# Altium integrated library Oscillators - Crystals.IntLib: 746 symbols (part 16 of 17)
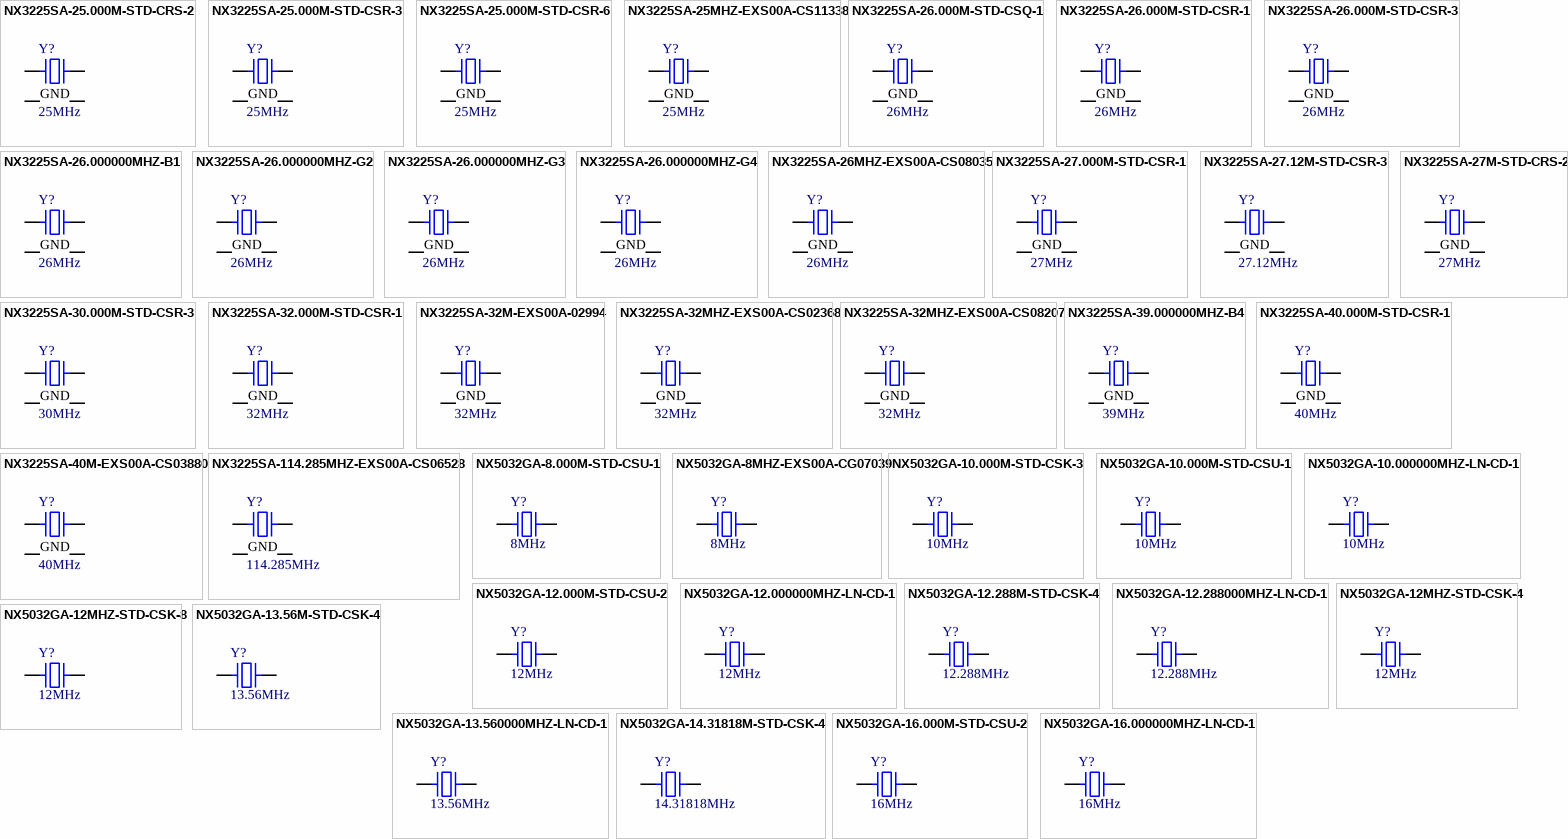
[diagram p33: symbols NX3225SA-25.000M-STD-CRS-2 to NX5032GA-16.000000MHZ-LN-CD-1]

## NX5032GA-16.000M-STD-CSU-2
designator Y?, comment 16MHz
CRYSTAL 16.0000MHZ 8PF SMD; Part Number: NX5032GA-16.000M-STD-CSU-2; Manufacturer: NDK America, Inc.; ESR (Equivalent Series Resistance): 120 Ohms; Frequency Stability: ±150ppm; Frequency Tolerance: ±50ppm; Operating Mode: Fundamental; ComponentLink1Description: Datasheet; ComponentLink1URL: //media.digikey.com/pdf/Data%20Sheets/NDK%20PDFs/NX5032GA_STD-CSU-1,-2.pdf; ComponentLink2Description: DigiKey Link; ComponentLink2URL: http://digikey.com/product-detail/en/ndk-america-inc/NX5032GA-16.000M-STD-CSU-2/644-1135-1-ND/1788490; Frequency: 16MHz; Height - Seated (Max): 0.059" (1.50mm); LastUpdated: 9/2/2020 1:22:00 AM; Lifecycle Status: Active; Load Capacitance: 8pF; Minimum Order: 1; Mounting Type: Surface Mount; Operating Temperature: -40°C ~ 150°C; Package / Case: 2-SMD, No Lead; Packaging: TapeAndReel; PartId: 631; Part Status: Active; Price: 0.63; Ratings: AEC-Q200; Series: NX5032GA; Size / Dimension: 0.197" L x 0.126" W (5.00mm x 3.20mm); Supplier 1: DigiKey; Supplier Part Number 1: 644-1135-1-ND; Type: MHz Crystal; Value: 16MHz
footprint NDK NX5032GA
pins: 1, 2

## NX5032GA-16.000000MHZ-LN-CD-1
designator Y?, comment 16MHz
CRYSTAL 16.0000MHZ 8PF SMD; Part Number: NX5032GA-16.000000MHZ-LN-CD-1; Manufacturer: NDK America, Inc.; ESR (Equivalent Series Resistance): 120 Ohms; Frequency Stability: ±50ppm; Operating Mode: Fundamental; ComponentLink1Description: Datasheet; ComponentLink1URL: //media.digikey.com/pdf/Data%20Sheets/NDK%20PDFs/NX5032GA.pdf; ComponentLink2Description: DigiKey Link; ComponentLink2URL: http://digikey.com/product-detail/en/ndk-america-inc/NX5032GA-16.000000MHZ-LN-CD-1/644-1037-1-ND/1128909; Frequency: 16MHz; Frequency Tolerance: ±50ppm; Height - Seated (Max): 0.059" (1.50mm); LastUpdated: 9/2/2020 1:22:00 AM; Lifecycle Status: Active; Load Capacitance: 8pF; Minimum Order: 1; Mounting Type: Surface Mount; Operating Temperature: -10°C ~ 70°C; Package / Case: 2-SMD, No Lead; Packaging: TapeAndReel; PartId: 622; Part Status: Active; Price: 0.32; Series: NX5032GA; Size / Dimension: 0.197" L x 0.126" W (5.00mm x 3.20mm); Supplier 1: DigiKey; Supplier Part Number 1: 644-1037-1-ND; Type: MHz Crystal; Value: 16MHz
footprint NDK NX5032GA
pins: 1, 2

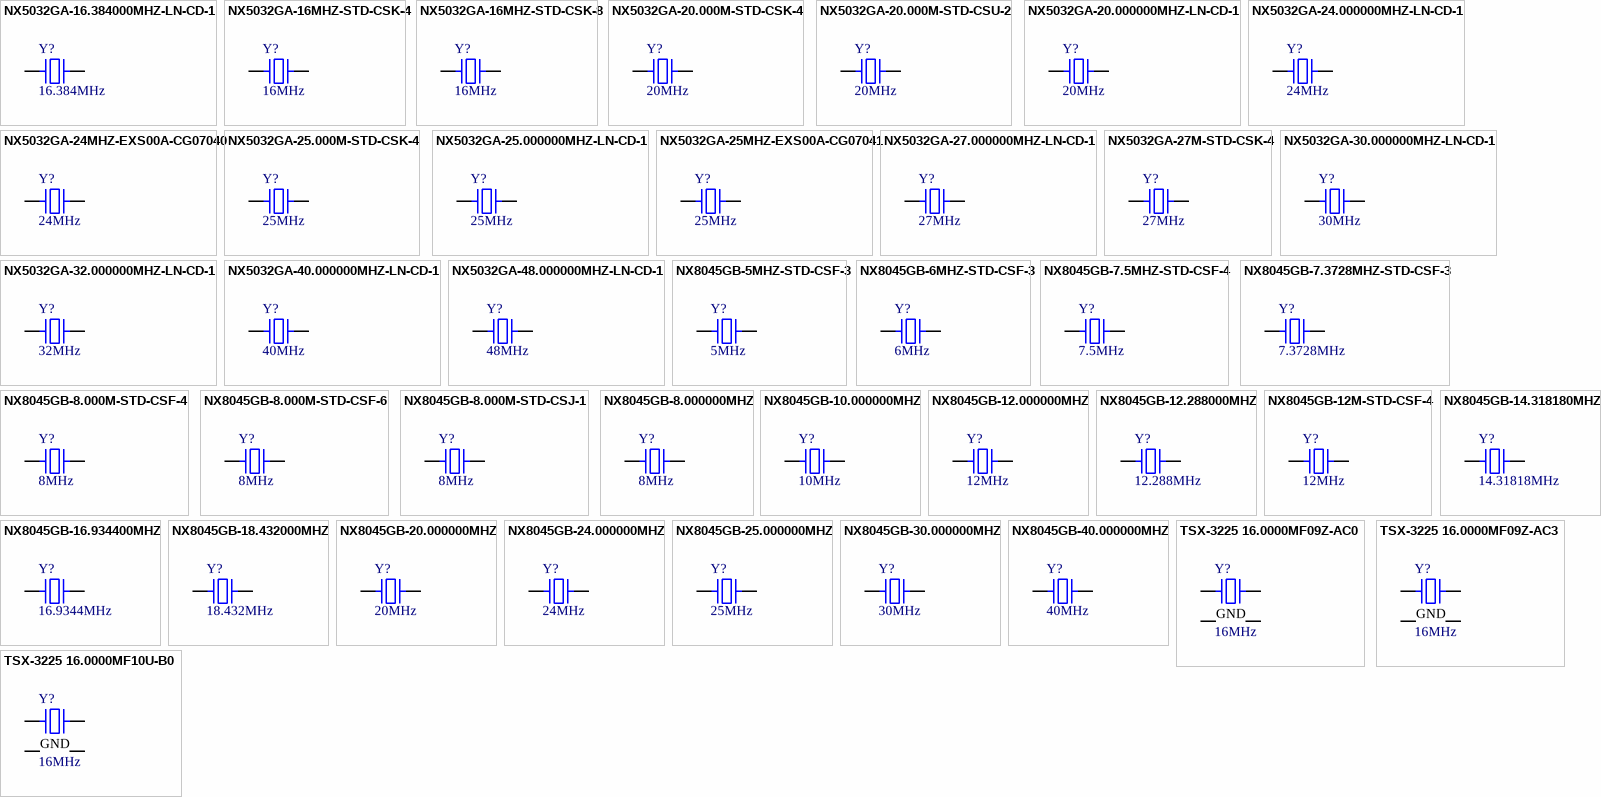
[diagram p17: symbols NX5032GA-16.384000MHZ-LN-CD-1 to TSX-3225 16.0000MF10U-B0]

## NX5032GA-16.384000MHZ-LN-CD-1
designator Y?, comment 16.384MHz
CRYSTAL 16.3840MHZ 8PF SMD; Part Number: NX5032GA-16.384000MHZ-LN-CD-1; Manufacturer: NDK America, Inc.; ESR (Equivalent Series Resistance): 120 Ohms; Frequency Stability: ±50ppm; Operating Mode: Fundamental; ComponentLink1Description: Datasheet; ComponentLink1URL: //media.digikey.com/pdf/Data%20Sheets/NDK%20PDFs/NX5032GA.pdf; ComponentLink2Description: DigiKey Link; ComponentLink2URL: http://digikey.com/product-detail/en/ndk-america-inc/NX5032GA-16.384000MHZ-LN-CD-1/644-1038-1-ND/1128910; Frequency: 16.384MHz; Frequency Tolerance: ±50ppm; Height - Seated (Max): 0.059" (1.50mm); LastUpdated: 9/2/2020 1:22:00 AM; Lifecycle Status: Active; Load Capacitance: 8pF; Minimum Order: 1; Mounting Type: Surface Mount; Operating Temperature: -10°C ~ 70°C; Package / Case: 2-SMD, No Lead; Packaging: TapeAndReel; PartId: 606; Part Status: Active; Price: 0.32; Series: NX5032GA; Size / Dimension: 0.197" L x 0.126" W (5.00mm x 3.20mm); Supplier 1: DigiKey; Supplier Part Number 1: 644-1038-1-ND; Type: MHz Crystal; Value: 16.384MHz
footprint NDK NX5032GA
pins: 1, 2

## NX5032GA-16MHZ-STD-CSK-4
designator Y?, comment 16MHz
CRYSTAL 16.0000MHZ 8PF SMD; Part Number: NX5032GA-16MHZ-STD-CSK-4; Manufacturer: NDK America, Inc.; ESR (Equivalent Series Resistance): 50 Ohms; Frequency Stability: ±30ppm; Frequency Tolerance: ±20ppm; Operating Mode: Fundamental; ComponentLink1Description: Datasheet; ComponentLink1URL: http://www.ndk.com/images/products/catalog/c_NX5032GA_e.pdf; ComponentLink2Description: DigiKey Link; ComponentLink2URL: http://digikey.com/product-detail/en/ndk-america-inc/NX5032GA-16MHZ-STD-CSK-4/644-1187-1-ND/3125576; Frequency: 16MHz; Height - Seated (Max): 0.059" (1.50mm); LastUpdated: 9/2/2020 1:22:00 AM; Lifecycle Status: Active; Load Capacitance: 8pF; Minimum Order: 1; Mounting Type: Surface Mount; Operating Temperature: -10°C ~ 70°C; Package / Case: 2-SMD, No Lead; Packaging: TapeAndReel; PartId: 630; Part Status: Active; Price: 0.38; Series: NX5032GA; Size / Dimension: 0.197" L x 0.126" W (5.00mm x 3.20mm); Supplier 1: DigiKey; Supplier Part Number 1: 644-1187-1-ND; Type: MHz Crystal; Value: 16MHz
footprint NDK NX5032GA
pins: 1, 2

## NX5032GA-16MHZ-STD-CSK-8
designator Y?, comment 16MHz
CRYSTAL 16.0000MHZ 8PF SMD; Part Number: NX5032GA-16MHZ-STD-CSK-8; Manufacturer: NDK America, Inc.; ESR (Equivalent Series Resistance): 120 Ohms; Frequency Stability: ±50ppm; Frequency Tolerance: ±30ppm; Operating Mode: Fundamental; ComponentLink1Description: Datasheet; ComponentLink1URL: http://www.ndk.com/images/products/catalog/c_NX5032GA-STD-CSK-8_e.pdf; ComponentLink2Description: DigiKey Link; ComponentLink2URL: http://digikey.com/product-detail/en/ndk-america-inc/NX5032GA-16MHZ-STD-CSK-8/644-1188-1-ND/3125577; Frequency: 16MHz; Height - Seated (Max): 0.059" (1.50mm); LastUpdated: 9/2/2020 1:22:00 AM; Lifecycle Status: Active; Load Capacitance: 8pF; Minimum Order: 1; Mounting Type: Surface Mount; Operating Temperature: -40°C ~ 85°C; Package / Case: 2-SMD, No Lead; Packaging: TapeAndReel; PartId: 614; Part Status: Active; Price: 0.38; Series: NX5032GA; Size / Dimension: 0.197" L x 0.126" W (5.00mm x 3.20mm); Supplier 1: DigiKey; Supplier Part Number 1: 644-1188-1-ND; Type: MHz Crystal; Value: 16MHz
footprint NDK NX5032GA
pins: 1, 2

## NX5032GA-20.000M-STD-CSK-4
designator Y?, comment 20MHz
CRYSTAL 20.0000MHZ 8PF SMD; Part Number: NX5032GA-20.000M-STD-CSK-4; Manufacturer: NDK America, Inc.; ESR (Equivalent Series Resistance): 50 Ohms; Frequency Stability: ±30ppm; Frequency Tolerance: ±20ppm; Operating Mode: Fundamental; ComponentLink1Description: Datasheet; ComponentLink1URL: http://www.ndk.com/images/products/catalog/c_NX5032GA_e.pdf; ComponentLink2Description: DigiKey Link; ComponentLink2URL: http://digikey.com/product-detail/en/ndk-america-inc/NX5032GA-20.000M-STD-CSK-4/644-1273-1-ND/5023005; Frequency: 20MHz; Height - Seated (Max): 0.059" (1.50mm); LastUpdated: 9/2/2020 1:22:00 AM; Lifecycle Status: Active; Load Capacitance: 8pF; Minimum Order: 1; Mounting Type: Surface Mount; Operating Temperature: -10°C ~ 70°C; Package / Case: 2-SMD, No Lead; Packaging: TapeAndReel; PartId: 620; Part Status: Active; Price: 0.37; Series: NX5032GA; Size / Dimension: 0.197" L x 0.126" W (5.00mm x 3.20mm); Supplier 1: DigiKey; Supplier Part Number 1: 644-1273-1-ND; Type: MHz Crystal; Value: 20MHz
footprint NDK NX5032GA
pins: 1, 2

## NX5032GA-20.000M-STD-CSU-2
designator Y?, comment 20MHz
CRYSTAL 20.0000MHZ 8PF SMD; Part Number: NX5032GA-20.000M-STD-CSU-2; Manufacturer: NDK America, Inc.; ESR (Equivalent Series Resistance): 100 Ohms; Frequency Stability: ±150ppm; Frequency Tolerance: ±50ppm; Operating Mode: Fundamental; ComponentLink1Description: Datasheet; ComponentLink1URL: //media.digikey.com/pdf/Data%20Sheets/NDK%20PDFs/NX5032GA_STD-CSU-1,-2.pdf; ComponentLink2Description: DigiKey Link; ComponentLink2URL: http://digikey.com/product-detail/en/ndk-america-inc/NX5032GA-20.000M-STD-CSU-2/644-1136-1-ND/1788491; Frequency: 20MHz; Height - Seated (Max): 0.059" (1.50mm); LastUpdated: 9/2/2020 1:22:00 AM; Lifecycle Status: Active; Load Capacitance: 8pF; Minimum Order: 1; Mounting Type: Surface Mount; Operating Temperature: -40°C ~ 150°C; Package / Case: 2-SMD, No Lead; Packaging: TapeAndReel; PartId: 633; Part Status: Active; Price: 0.63; Ratings: AEC-Q200; Series: NX5032GA; Size / Dimension: 0.197" L x 0.126" W (5.00mm x 3.20mm); Supplier 1: DigiKey; Supplier Part Number 1: 644-1136-1-ND; Type: MHz Crystal; Value: 20MHz
footprint NDK NX5032GA
pins: 1, 2

## NX5032GA-20.000000MHZ-LN-CD-1
designator Y?, comment 20MHz
CRYSTAL 20.0000MHZ 8PF SMD; Part Number: NX5032GA-20.000000MHZ-LN-CD-1; Manufacturer: NDK America, Inc.; ESR (Equivalent Series Resistance): 70 Ohms; Frequency Stability: ±50ppm; Operating Mode: Fundamental; ComponentLink1Description: Datasheet; ComponentLink1URL: //media.digikey.com/pdf/Data%20Sheets/NDK%20PDFs/NX5032GA.pdf; ComponentLink2Description: DigiKey Link; ComponentLink2URL: http://digikey.com/product-detail/en/ndk-america-inc/NX5032GA-20.000000MHZ-LN-CD-1/644-1039-1-ND/1128911; Frequency: 20MHz; Frequency Tolerance: ±50ppm; Height - Seated (Max): 0.059" (1.50mm); LastUpdated: 9/2/2020 1:22:00 AM; Lifecycle Status: Active; Load Capacitance: 8pF; Minimum Order: 1; Mounting Type: Surface Mount; Operating Temperature: -10°C ~ 70°C; Package / Case: 2-SMD, No Lead; Packaging: TapeAndReel; PartId: 634; Part Status: Active; Price: 0.32; Series: NX5032GA; Size / Dimension: 0.197" L x 0.126" W (5.00mm x 3.20mm); Supplier 1: DigiKey; Supplier Part Number 1: 644-1039-1-ND; Type: MHz Crystal; Value: 20MHz
footprint NDK NX5032GA
pins: 1, 2

## NX5032GA-24.000000MHZ-LN-CD-1
designator Y?, comment 24MHz
CRYSTAL 24.0000MHZ 8PF SMD; Part Number: NX5032GA-24.000000MHZ-LN-CD-1; Manufacturer: NDK America, Inc.; ESR (Equivalent Series Resistance): 70 Ohms; Frequency Stability: ±50ppm; Operating Mode: Fundamental; ComponentLink1Description: Datasheet; ComponentLink1URL: //media.digikey.com/pdf/Data%20Sheets/NDK%20PDFs/NX5032GA.pdf; ComponentLink2Description: DigiKey Link; ComponentLink2URL: http://digikey.com/product-detail/en/ndk-america-inc/NX5032GA-24.000000MHZ-LN-CD-1/644-1040-1-ND/1128912; Frequency: 24MHz; Frequency Tolerance: ±50ppm; Height - Seated (Max): 0.059" (1.50mm); LastUpdated: 9/2/2020 1:22:00 AM; Lifecycle Status: Active; Load Capacitance: 8pF; Minimum Order: 1; Mounting Type: Surface Mount; Operating Temperature: -10°C ~ 70°C; Package / Case: 2-SMD, No Lead; Packaging: TapeAndReel; PartId: 623; Part Status: Active; Price: 0.32; Series: NX5032GA; Size / Dimension: 0.197" L x 0.126" W (5.00mm x 3.20mm); Supplier 1: DigiKey; Supplier Part Number 1: 644-1040-1-ND; Type: MHz Crystal; Value: 24MHz
footprint NDK NX5032GA
pins: 1, 2

## NX5032GA-24MHZ-EXS00A-CG07040
designator Y?, comment 24MHz
CRYSTAL 24MHZ 18PF SMD; Part Number: NX5032GA-24MHZ-EXS00A-CG07040; Manufacturer: NDK America, Inc.; ESR (Equivalent Series Resistance): 70 Ohms; Frequency Stability: ±30ppm; Operating Mode: Fundamental; ComponentLink1Description: Datasheet; ComponentLink1URL: //media.digikey.com/pdf/Data%20Sheets/NDK%20PDFs/NX5032GA-24MHz-EXS00A-CG07040.pdf; ComponentLink2Description: DigiKey Link; ComponentLink2URL: http://digikey.com/product-detail/en/ndk-america-inc/NX5032GA-24MHZ-EXS00A-CG07040/644-1319-1-ND/8275437; Frequency: 24MHz; Frequency Tolerance: ±30ppm; Height - Seated (Max): 0.059" (1.50mm); LastUpdated: 9/2/2020 1:21:59 AM; Lifecycle Status: Active; Load Capacitance: 18pF; Minimum Order: 0; Mounting Type: Surface Mount; Operating Temperature: -20°C ~ 70°C; Package / Case: 2-SMD, No Lead; Packaging: TapeAndReel; PartId: 638; Part Status: Active; Price: 0.48; Series: NX5032GA; Size / Dimension: 0.197" L x 0.126" W (5.00mm x 3.20mm); Supplier 1: DigiKey; Supplier Part Number 1: 644-1319-1-ND; Type: MHz Crystal; Value: 24MHz
footprint NDK NX5032GA
pins: 1, 2

## NX5032GA-25.000M-STD-CSK-4
designator Y?, comment 25MHz
CRYSTAL 25.0000MHZ 8PF SMD; Part Number: NX5032GA-25.000M-STD-CSK-4; Manufacturer: NDK America, Inc.; ESR (Equivalent Series Resistance): 50 Ohms; Frequency Stability: ±30ppm; Frequency Tolerance: ±20ppm; Operating Mode: Fundamental; ComponentLink1Description: Datasheet; ComponentLink1URL: http://www.ndk.com/images/products/catalog/c_NX5032GA_e.pdf; ComponentLink2Description: DigiKey Link; ComponentLink2URL: http://digikey.com/product-detail/en/ndk-america-inc/NX5032GA-25.000M-STD-CSK-4/644-1274-1-ND/5023006; Frequency: 25MHz; Height - Seated (Max): 0.059" (1.50mm); LastUpdated: 9/2/2020 1:22:00 AM; Lifecycle Status: Active; Load Capacitance: 8pF; Minimum Order: 1; Mounting Type: Surface Mount; Operating Temperature: -10°C ~ 70°C; Package / Case: 2-SMD, No Lead; Packaging: TapeAndReel; PartId: 628; Part Status: Active; Price: 0.37; Series: NX5032GA; Size / Dimension: 0.197" L x 0.126" W (5.00mm x 3.20mm); Supplier 1: DigiKey; Supplier Part Number 1: 644-1274-1-ND; Type: MHz Crystal; Value: 25MHz
footprint NDK NX5032GA
pins: 1, 2

## NX5032GA-25.000000MHZ-LN-CD-1
designator Y?, comment 25MHz
CRYSTAL 25.0000MHZ 8PF SMD; Part Number: NX5032GA-25.000000MHZ-LN-CD-1; Manufacturer: NDK America, Inc.; ESR (Equivalent Series Resistance): 70 Ohms; Frequency Stability: ±50ppm; Operating Mode: Fundamental; ComponentLink1Description: Datasheet; ComponentLink1URL: //media.digikey.com/pdf/Data%20Sheets/NDK%20PDFs/NX5032GA.pdf; ComponentLink2Description: DigiKey Link; ComponentLink2URL: http://digikey.com/product-detail/en/ndk-america-inc/NX5032GA-25.000000MHZ-LN-CD-1/644-1041-1-ND/1128913; Frequency: 25MHz; Frequency Tolerance: ±50ppm; Height - Seated (Max): 0.059" (1.50mm); LastUpdated: 9/2/2020 1:22:00 AM; Lifecycle Status: Active; Load Capacitance: 8pF; Minimum Order: 1; Mounting Type: Surface Mount; Operating Temperature: -10°C ~ 70°C; Package / Case: 2-SMD, No Lead; Packaging: TapeAndReel; PartId: 621; Part Status: Active; Price: 0.32; Series: NX5032GA; Size / Dimension: 0.197" L x 0.126" W (5.00mm x 3.20mm); Supplier 1: DigiKey; Supplier Part Number 1: 644-1041-1-ND; Type: MHz Crystal; Value: 25MHz
footprint NDK NX5032GA
pins: 1, 2

## NX5032GA-25MHZ-EXS00A-CG07041
designator Y?, comment 25MHz
CRYSTAL 25MHZ 18PF SMD; Part Number: NX5032GA-25MHZ-EXS00A-CG07041; Manufacturer: NDK America, Inc.; ESR (Equivalent Series Resistance): 70 Ohms; Frequency Stability: ±30ppm; Frequency Tolerance: ±20ppm; Operating Mode: Fundamental; ComponentLink1Description: Datasheet; ComponentLink1URL: //media.digikey.com/pdf/Data%20Sheets/NDK%20PDFs/NX5032GA-25MHz-EXS00A-CG07041.pdf; ComponentLink2Description: DigiKey Link; ComponentLink2URL: http://digikey.com/product-detail/en/ndk-america-inc/NX5032GA-25MHZ-EXS00A-CG07041/644-1322-1-ND/8275440; Frequency: 25MHz; Height - Seated (Max): 0.059" (1.50mm); LastUpdated: 9/2/2020 1:22:00 AM; Lifecycle Status: Active; Load Capacitance: 18pF; Minimum Order: 1; Mounting Type: Surface Mount; Operating Temperature: -40°C ~ 85°C; Package / Case: 2-SMD, No Lead; Packaging: TapeAndReel; PartId: 618; Part Status: Active; Price: 0.48; Series: NX5032GA; Size / Dimension: 0.197" L x 0.126" W (5.00mm x 3.20mm); Supplier 1: DigiKey; Supplier Part Number 1: 644-1322-1-ND; Type: MHz Crystal; Value: 25MHz
footprint NDK NX5032GA
pins: 1, 2

## NX5032GA-27.000000MHZ-LN-CD-1
designator Y?, comment 27MHz
CRYSTAL 27.0000MHZ 8PF SMD; Part Number: NX5032GA-27.000000MHZ-LN-CD-1; Manufacturer: NDK America, Inc.; ESR (Equivalent Series Resistance): 70 Ohms; Frequency Stability: ±50ppm; Operating Mode: Fundamental; ComponentLink1Description: Datasheet; ComponentLink1URL: //media.digikey.com/pdf/Data%20Sheets/NDK%20PDFs/NX5032GA.pdf; ComponentLink2Description: DigiKey Link; ComponentLink2URL: http://digikey.com/product-detail/en/ndk-america-inc/NX5032GA-27.000000MHZ-LN-CD-1/644-1042-1-ND/1128914; Frequency: 27MHz; Frequency Tolerance: ±50ppm; Height - Seated (Max): 0.059" (1.50mm); LastUpdated: 9/2/2020 1:22:00 AM; Lifecycle Status: Active; Load Capacitance: 8pF; Minimum Order: 1; Mounting Type: Surface Mount; Operating Temperature: -10°C ~ 70°C; Package / Case: 2-SMD, No Lead; Packaging: TapeAndReel; PartId: 624; Part Status: Active; Price: 0.32; Series: NX5032GA; Size / Dimension: 0.197" L x 0.126" W (5.00mm x 3.20mm); Supplier 1: DigiKey; Supplier Part Number 1: 644-1042-1-ND; Type: MHz Crystal; Value: 27MHz
footprint NDK NX5032GA
pins: 1, 2

## NX5032GA-27M-STD-CSK-4
designator Y?, comment 27MHz
CRYSTAL 27.0000MHZ 8PF SMD; Part Number: NX5032GA-27M-STD-CSK-4; Manufacturer: NDK America, Inc.; ESR (Equivalent Series Resistance): 50 Ohms; Frequency Stability: ±30ppm; Frequency Tolerance: ±20ppm; Operating Mode: Fundamental; ComponentLink1Description: Datasheet; ComponentLink1URL: http://www.ndk.com/images/products/catalog/c_NX5032GA_e.pdf; ComponentLink2Description: DigiKey Link; ComponentLink2URL: http://digikey.com/product-detail/en/ndk-america-inc/NX5032GA-27M-STD-CSK-4/644-1246-1-ND/4914489; Frequency: 27MHz; Height - Seated (Max): 0.059" (1.50mm); LastUpdated: 9/2/2020 1:22:00 AM; Lifecycle Status: Active; Load Capacitance: 8pF; Minimum Order: 1; Mounting Type: Surface Mount; Operating Temperature: -10°C ~ 70°C; Package / Case: 2-SMD, No Lead; Packaging: TapeAndReel; PartId: 608; Part Status: Active; Price: 0.37; Series: NX5032GA; Size / Dimension: 0.197" L x 0.126" W (5.00mm x 3.20mm); Supplier 1: DigiKey; Supplier Part Number 1: 644-1246-1-ND; Type: MHz Crystal; Value: 27MHz
footprint NDK NX5032GA
pins: 1, 2

## NX5032GA-30.000000MHZ-LN-CD-1
designator Y?, comment 30MHz
CRYSTAL 30.0000MHZ 8PF SMD; Part Number: NX5032GA-30.000000MHZ-LN-CD-1; Manufacturer: NDK America, Inc.; ESR (Equivalent Series Resistance): 50 Ohms; Frequency Stability: ±50ppm; Operating Mode: Fundamental; ComponentLink1Description: Datasheet; ComponentLink1URL: //media.digikey.com/pdf/Data%20Sheets/NDK%20PDFs/NX5032GA.pdf; ComponentLink2Description: DigiKey Link; ComponentLink2URL: http://digikey.com/product-detail/en/ndk-america-inc/NX5032GA-30.000000MHZ-LN-CD-1/644-1043-1-ND/1128915; Frequency: 30MHz; Frequency Tolerance: ±50ppm; Height - Seated (Max): 0.059" (1.50mm); LastUpdated: 9/2/2020 1:21:59 AM; Lifecycle Status: Active; Load Capacitance: 8pF; Minimum Order: 1; Mounting Type: Surface Mount; Operating Temperature: -10°C ~ 70°C; Package / Case: 2-SMD, No Lead; Packaging: TapeAndReel; PartId: 635; Part Status: Active; Price: 0.32; Series: NX5032GA; Size / Dimension: 0.197" L x 0.126" W (5.00mm x 3.20mm); Supplier 1: DigiKey; Supplier Part Number 1: 644-1043-1-ND; Type: MHz Crystal; Value: 30MHz
footprint NDK NX5032GA
pins: 1, 2

## NX5032GA-32.000000MHZ-LN-CD-1
designator Y?, comment 32MHz
CRYSTAL 32.0000MHZ 8PF SMD; Part Number: NX5032GA-32.000000MHZ-LN-CD-1; Manufacturer: NDK America, Inc.; ESR (Equivalent Series Resistance): 50 Ohms; Frequency Stability: ±50ppm; Operating Mode: Fundamental; ComponentLink1Description: Datasheet; ComponentLink1URL: //media.digikey.com/pdf/Data%20Sheets/NDK%20PDFs/NX5032GA.pdf; ComponentLink2Description: DigiKey Link; ComponentLink2URL: http://digikey.com/product-detail/en/ndk-america-inc/NX5032GA-32.000000MHZ-LN-CD-1/644-1044-1-ND/1128916; Frequency: 32MHz; Frequency Tolerance: ±50ppm; Height - Seated (Max): 0.059" (1.50mm); LastUpdated: 9/2/2020 1:21:59 AM; Lifecycle Status: Active; Load Capacitance: 8pF; Minimum Order: 1; Mounting Type: Surface Mount; Operating Temperature: -10°C ~ 70°C; Package / Case: 2-SMD, No Lead; Packaging: TapeAndReel; PartId: 636; Part Status: Active; Price: 0.32; Series: NX5032GA; Size / Dimension: 0.197" L x 0.126" W (5.00mm x 3.20mm); Supplier 1: DigiKey; Supplier Part Number 1: 644-1044-1-ND; Type: MHz Crystal; Value: 32MHz
footprint NDK NX5032GA
pins: 1, 2

## NX5032GA-40.000000MHZ-LN-CD-1
designator Y?, comment 40MHz
CRYSTAL 40.0000MHZ 8PF SMD; Part Number: NX5032GA-40.000000MHZ-LN-CD-1; Manufacturer: NDK America, Inc.; ESR (Equivalent Series Resistance): 50 Ohms; Frequency Stability: ±50ppm; Operating Mode: Fundamental; ComponentLink1Description: Datasheet; ComponentLink1URL: //media.digikey.com/pdf/Data%20Sheets/NDK%20PDFs/NX5032GA.pdf; ComponentLink2Description: DigiKey Link; ComponentLink2URL: http://digikey.com/product-detail/en/ndk-america-inc/NX5032GA-40.000000MHZ-LN-CD-1/644-1045-1-ND/1128917; Frequency: 40MHz; Frequency Tolerance: ±50ppm; Height - Seated (Max): 0.059" (1.50mm); LastUpdated: 9/2/2020 1:22:00 AM; Lifecycle Status: Active; Load Capacitance: 8pF; Minimum Order: 1; Mounting Type: Surface Mount; Operating Temperature: -10°C ~ 70°C; Package / Case: 2-SMD, No Lead; Packaging: TapeAndReel; PartId: 617; Part Status: Active; Price: 0.32; Series: NX5032GA; Size / Dimension: 0.197" L x 0.126" W (5.00mm x 3.20mm); Supplier 1: DigiKey; Supplier Part Number 1: 644-1045-1-ND; Type: MHz Crystal; Value: 40MHz
footprint NDK NX5032GA
pins: 1, 2

## NX5032GA-48.000000MHZ-LN-CD-1
designator Y?, comment 48MHz
CRYSTAL 48.0000MHZ 8PF SMD; Part Number: NX5032GA-48.000000MHZ-LN-CD-1; Manufacturer: NDK America, Inc.; ESR (Equivalent Series Resistance): 50 Ohms; Frequency Stability: ±50ppm; Operating Mode: Fundamental; ComponentLink1Description: Datasheet; ComponentLink1URL: //media.digikey.com/pdf/Data%20Sheets/NDK%20PDFs/NX5032GA.pdf; ComponentLink2Description: DigiKey Link; ComponentLink2URL: http://digikey.com/product-detail/en/ndk-america-inc/NX5032GA-48.000000MHZ-LN-CD-1/644-1046-1-ND/1128918; Frequency: 48MHz; Frequency Tolerance: ±50ppm; Height - Seated (Max): 0.059" (1.50mm); LastUpdated: 9/2/2020 1:22:00 AM; Lifecycle Status: Active; Load Capacitance: 8pF; Minimum Order: 1; Mounting Type: Surface Mount; Operating Temperature: -10°C ~ 70°C; Package / Case: 2-SMD, No Lead; Packaging: TapeAndReel; PartId: 626; Part Status: Active; Price: 0.32; Series: NX5032GA; Size / Dimension: 0.197" L x 0.126" W (5.00mm x 3.20mm); Supplier 1: DigiKey; Supplier Part Number 1: 644-1046-1-ND; Type: MHz Crystal; Value: 48MHz
footprint NDK NX5032GA
pins: 1, 2

## NX8045GB-5MHZ-STD-CSF-3
designator Y?, comment 5MHz
CRYSTAL 5.0000MHZ 8PF SMD; Part Number: NX8045GB-5MHZ-STD-CSF-3; Manufacturer: NDK America, Inc.; ESR (Equivalent Series Resistance): 250 Ohms; Frequency Stability: ±30ppm; Frequency Tolerance: ±20ppm; Operating Mode: Fundamental; ComponentLink1Description: Datasheet; ComponentLink1URL: http://www.ndk.com/images/products/catalog/c_NX8045GB-STD-CSF-4_e.pdf; ComponentLink2Description: DigiKey Link; ComponentLink2URL: http://digikey.com/product-detail/en/ndk-america-inc/NX8045GB-5MHZ-STD-CSF-3/644-1202-1-ND/3894081; Frequency: 5MHz; Height - Seated (Max): 0.079" (2.00mm); LastUpdated: 9/2/2020 1:22:00 AM; Lifecycle Status: Active; Load Capacitance: 8pF; Minimum Order: 1; Mounting Type: Surface Mount; Operating Temperature: -10°C ~ 70°C; Package / Case: 2-SMD, No Lead; Packaging: TapeAndReel; PartId: 658; Part Status: Active; Price: 0.30; Series: NX8045GB; Size / Dimension: 0.315" L x 0.177" W (8.00mm x 4.50mm); Supplier 1: DigiKey; Supplier Part Number 1: 644-1202-1-ND; Type: MHz Crystal; Value: 5MHz
footprint NDK NX8045GB
pins: 1, 2

## NX8045GB-6MHZ-STD-CSF-3
designator Y?, comment 6MHz
CRYSTAL 6.0000MHZ 8PF SMD; Part Number: NX8045GB-6MHZ-STD-CSF-3; Manufacturer: NDK America, Inc.; ESR (Equivalent Series Resistance): 250 Ohms; Frequency Stability: ±30ppm; Frequency Tolerance: ±20ppm; Operating Mode: Fundamental; ComponentLink1Description: Datasheet; ComponentLink1URL: http://www.ndk.com/images/products/catalog/c_NX8045GB-STD-CSF-4_e.pdf; ComponentLink2Description: DigiKey Link; ComponentLink2URL: http://digikey.com/product-detail/en/ndk-america-inc/NX8045GB-6MHZ-STD-CSF-3/644-1203-1-ND/3894080; Frequency: 6MHz; Height - Seated (Max): 0.079" (2.00mm); LastUpdated: 9/2/2020 1:22:00 AM; Lifecycle Status: Active; Load Capacitance: 8pF; Minimum Order: 1; Mounting Type: Surface Mount; Operating Temperature: -10°C ~ 70°C; Package / Case: 2-SMD, No Lead; Packaging: TapeAndReel; PartId: 656; Part Status: Active; Price: 0.30; Series: NX8045GB; Size / Dimension: 0.315" L x 0.177" W (8.00mm x 4.50mm); Supplier 1: DigiKey; Supplier Part Number 1: 644-1203-1-ND; Type: MHz Crystal; Value: 6MHz
footprint NDK NX8045GB
pins: 1, 2

## NX8045GB-7.5MHZ-STD-CSF-4
designator Y?, comment 7.5MHz
CRYSTAL 7.5000MHZ 8PF SMD; Part Number: NX8045GB-7.5MHZ-STD-CSF-4; Manufacturer: NDK America, Inc.; ESR (Equivalent Series Resistance): 250 Ohms; Frequency Stability: ±30ppm; Frequency Tolerance: ±20ppm; Operating Mode: Fundamental; ComponentLink1Description: Datasheet; ComponentLink1URL: http://www.ndk.com/images/products/catalog/c_NX8045GB-STD-CSF-4_e.pdf; ComponentLink2Description: DigiKey Link; ComponentLink2URL: http://digikey.com/product-detail/en/ndk-america-inc/NX8045GB-7.5MHZ-STD-CSF-4/644-1205-1-ND/3894068; Frequency: 7.5MHz; Height - Seated (Max): 0.079" (2.00mm); LastUpdated: 9/2/2020 1:22:00 AM; Lifecycle Status: Active; Load Capacitance: 8pF; Minimum Order: 1; Mounting Type: Surface Mount; Operating Temperature: -10°C ~ 70°C; Package / Case: 2-SMD, No Lead; Packaging: TapeAndReel; PartId: 643; Part Status: Active; Price: 0.30; Series: NX8045GB; Size / Dimension: 0.315" L x 0.177" W (8.00mm x 4.50mm); Supplier 1: DigiKey; Supplier Part Number 1: 644-1205-1-ND; Type: MHz Crystal; Value: 7.5MHz
footprint NDK NX8045GB
pins: 1, 2

## NX8045GB-7.3728MHZ-STD-CSF-3
designator Y?, comment 7.3728MHz
CRYSTAL 7.3728MHZ 8PF SMD; Part Number: NX8045GB-7.3728MHZ-STD-CSF-3; Manufacturer: NDK America, Inc.; ESR (Equivalent Series Resistance): 250 Ohms; Frequency Stability: ±30ppm; Frequency Tolerance: ±20ppm; Operating Mode: Fundamental; ComponentLink1Description: Datasheet; ComponentLink1URL: http://www.ndk.com/images/products/catalog/c_NX8045GB-STD-CSF-4_e.pdf; ComponentLink2Description: DigiKey Link; ComponentLink2URL: http://digikey.com/product-detail/en/ndk-america-inc/NX8045GB-7.3728MHZ-STD-CSF-3/644-1204-1-ND/3894079; Frequency: 7.3728MHz; Height - Seated (Max): 0.079" (2.00mm); LastUpdated: 9/2/2020 1:22:00 AM; Lifecycle Status: Active; Load Capacitance: 8pF; Minimum Order: 1; Mounting Type: Surface Mount; Operating Temperature: -10°C ~ 70°C; Package / Case: 2-SMD, No Lead; Packaging: TapeAndReel; PartId: 657; Part Status: Active; Price: 0.30; Series: NX8045GB; Size / Dimension: 0.315" L x 0.177" W (8.00mm x 4.50mm); Supplier 1: DigiKey; Supplier Part Number 1: 644-1204-1-ND; Type: MHz Crystal; Value: 7.3728MHz
footprint NDK NX8045GB
pins: 1, 2

## NX8045GB-8.000M-STD-CSF-4
designator Y?, comment 8MHz
CRYSTAL 8.0000MHZ 8PF SMD; Part Number: NX8045GB-8.000M-STD-CSF-4; Manufacturer: NDK America, Inc.; ESR (Equivalent Series Resistance): 200 Ohms; Frequency Stability: ±30ppm; Frequency Tolerance: ±20ppm; Operating Mode: Fundamental; ComponentLink1Description: Datasheet; ComponentLink1URL: http://www.ndk.com/images/products/catalog/c_NX8045GB-STD-CSF-4_e.pdf; ComponentLink2Description: DigiKey Link; ComponentLink2URL: http://digikey.com/product-detail/en/ndk-america-inc/NX8045GB-8.000M-STD-CSF-4/644-1279-1-ND/5023011; Frequency: 8MHz; Height - Seated (Max): 0.079" (2.00mm); LastUpdated: 9/2/2020 1:22:00 AM; Lifecycle Status: Active; Load Capacitance: 8pF; Minimum Order: 1; Mounting Type: Surface Mount; Operating Temperature: -10°C ~ 70°C; Package / Case: 2-SMD, No Lead; Packaging: TapeAndReel; PartId: 639; Part Status: Active; Price: 0.40; Series: NX8045GB; Size / Dimension: 0.315" L x 0.177" W (8.00mm x 4.50mm); Supplier 1: DigiKey; Supplier Part Number 1: 644-1279-1-ND; Type: MHz Crystal; Value: 8MHz
footprint NDK NX8045GB
pins: 1, 2

## NX8045GB-8.000M-STD-CSF-6
designator Y?, comment 8MHz
CRYSTAL 8.0000MHZ 8PF SMD; Part Number: NX8045GB-8.000M-STD-CSF-6; Manufacturer: NDK America, Inc.; ESR (Equivalent Series Resistance): 200 Ohms; Frequency Stability: ±50ppm; Frequency Tolerance: ±30ppm; Operating Mode: Fundamental; ComponentLink1Description: Datasheet; ComponentLink1URL: http://www.ndk.com/images/products/catalog/c_NX8045GB-STD-CSF-6_e.pdf; ComponentLink2Description: DigiKey Link; ComponentLink2URL: http://digikey.com/product-detail/en/ndk-america-inc/NX8045GB-8.000M-STD-CSF-6/644-1280-1-ND/5023012; Frequency: 8MHz; Height - Seated (Max): 0.079" (2.00mm); LastUpdated: 9/2/2020 1:22:00 AM; Lifecycle Status: Active; Load Capacitance: 8pF; Minimum Order: 1; Mounting Type: Surface Mount; Operating Temperature: -40°C ~ 85°C; Package / Case: 2-SMD, No Lead; Packaging: TapeAndReel; PartId: 645; Part Status: Active; Price: 0.40; Series: NX8045GB; Size / Dimension: 0.315" L x 0.177" W (8.00mm x 4.50mm); Supplier 1: DigiKey; Supplier Part Number 1: 644-1280-1-ND; Type: MHz Crystal; Value: 8MHz
footprint NDK NX8045GB
pins: 1, 2

## NX8045GB-8.000M-STD-CSJ-1
designator Y?, comment 8MHz
CRYSTAL 8.0000MHZ 8PF SMD; Part Number: NX8045GB-8.000M-STD-CSJ-1; Manufacturer: NDK America, Inc.; ESR (Equivalent Series Resistance): 220 Ohms; Frequency Stability: ±150ppm; Frequency Tolerance: ±50ppm; Operating Mode: Fundamental; ComponentLink1Description: Datasheet; ComponentLink1URL: http://www.ndk.com/images/products/catalog/c_NX8045GB-STD-CSJ-1_e.pdf; ComponentLink2Description: DigiKey Link; ComponentLink2URL: http://digikey.com/product-detail/en/ndk-america-inc/NX8045GB-8.000M-STD-CSJ-1/644-1206-1-ND/3894067; Frequency: 8MHz; Height - Seated (Max): 0.079" (2.00mm); LastUpdated: 9/2/2020 1:22:00 AM; Lifecycle Status: Active; Load Capacitance: 8pF; Minimum Order: 1; Mounting Type: Surface Mount; Operating Temperature: -40°C ~ 150°C; Package / Case: 2-SMD, No Lead; Packaging: TapeAndReel; PartId: 650; Part Status: Active; Price: 0.39; Ratings: AEC-Q200; Series: NX8045GB; Size / Dimension: 0.315" L x 0.177" W (8.00mm x 4.50mm); Supplier 1: DigiKey; Supplier Part Number 1: 644-1206-1-ND; Type: MHz Crystal; Value: 8MHz
footprint NDK NX8045GB
pins: 1, 2

## NX8045GB-8.000000MHZ
designator Y?, comment 8MHz
CRYSTAL 8.0000MHZ 8PF SMD; Part Number: NX8045GB-8.000000MHZ; Manufacturer: NDK America, Inc.; ESR (Equivalent Series Resistance): 200 Ohms; Frequency Stability: ±50ppm; Operating Mode: Fundamental; ComponentLink1Description: Datasheet; ComponentLink1URL: //media.digikey.com/pdf/Data%20Sheets/NDK%20PDFs/NX8045GB.pdf; ComponentLink2Description: DigiKey Link; ComponentLink2URL: http://digikey.com/product-detail/en/ndk-america-inc/NX8045GB-8.000000MHZ/644-1018-1-ND/1128890; Frequency: 8MHz; Frequency Tolerance: ±50ppm; Height - Seated (Max): 0.079" (2.00mm); LastUpdated: 9/2/2020 1:22:00 AM; Lifecycle Status: Active; Load Capacitance: 8pF; Minimum Order: 1; Mounting Type: Surface Mount; Operating Temperature: -10°C ~ 70°C; Package / Case: 2-SMD, No Lead; Packaging: TapeAndReel; PartId: 653; Part Status: Active; Price: 0.30; Series: NX8045GB; Size / Dimension: 0.315" L x 0.177" W (8.00mm x 4.50mm); Supplier 1: DigiKey; Supplier Part Number 1: 644-1018-1-ND; Type: MHz Crystal; Value: 8MHz
footprint NDK NX8045GB
pins: 1, 2

## NX8045GB-10.000000MHZ
designator Y?, comment 10MHz
CRYSTAL 10.0000MHZ 8PF SMD; Part Number: NX8045GB-10.000000MHZ; Manufacturer: NDK America, Inc.; ESR (Equivalent Series Resistance): 100 Ohms; Frequency Stability: ±50ppm; Operating Mode: Fundamental; ComponentLink1Description: Datasheet; ComponentLink1URL: //media.digikey.com/pdf/Data%20Sheets/NDK%20PDFs/NX8045GB.pdf; ComponentLink2Description: DigiKey Link; ComponentLink2URL: http://digikey.com/product-detail/en/ndk-america-inc/NX8045GB-10.000000MHZ/644-1019-1-ND/1128891; Frequency: 10MHz; Frequency Tolerance: ±50ppm; Height - Seated (Max): 0.079" (2.00mm); LastUpdated: 9/2/2020 1:22:00 AM; Lifecycle Status: Active; Load Capacitance: 8pF; Minimum Order: 1; Mounting Type: Surface Mount; Operating Temperature: -10°C ~ 70°C; Package / Case: 2-SMD, No Lead; Packaging: TapeAndReel; PartId: 648; Part Status: Active; Price: 0.30; Series: NX8045GB; Size / Dimension: 0.315" L x 0.177" W (8.00mm x 4.50mm); Supplier 1: DigiKey; Supplier Part Number 1: 644-1019-1-ND; Type: MHz Crystal; Value: 10MHz
footprint NDK NX8045GB
pins: 1, 2

## NX8045GB-12.000000MHZ
designator Y?, comment 12MHz
CRYSTAL 12.0000MHZ 8PF SMD; Part Number: NX8045GB-12.000000MHZ; Manufacturer: NDK America, Inc.; ESR (Equivalent Series Resistance): 80 Ohms; Frequency Stability: ±50ppm; Operating Mode: Fundamental; ComponentLink1Description: Datasheet; ComponentLink1URL: //media.digikey.com/pdf/Data%20Sheets/NDK%20PDFs/NX8045GB.pdf; ComponentLink2Description: DigiKey Link; ComponentLink2URL: http://digikey.com/product-detail/en/ndk-america-inc/NX8045GB-12.000000MHZ/644-1020-1-ND/1128892; Frequency: 12MHz; Frequency Tolerance: ±50ppm; Height - Seated (Max): 0.079" (2.00mm); LastUpdated: 9/2/2020 1:22:00 AM; Lifecycle Status: Active; Load Capacitance: 8pF; Minimum Order: 1; Mounting Type: Surface Mount; Operating Temperature: -10°C ~ 70°C; Package / Case: 2-SMD, No Lead; Packaging: TapeAndReel; PartId: 651; Part Status: Active; Price: 0.30; Series: NX8045GB; Size / Dimension: 0.315" L x 0.177" W (8.00mm x 4.50mm); Supplier 1: DigiKey; Supplier Part Number 1: 644-1020-1-ND; Type: MHz Crystal; Value: 12MHz
footprint NDK NX8045GB
pins: 1, 2

## NX8045GB-12.288000MHZ
designator Y?, comment 12.288MHz
CRYSTAL 12.2880MHZ 8PF SMD; Part Number: NX8045GB-12.288000MHZ; Manufacturer: NDK America, Inc.; ESR (Equivalent Series Resistance): 80 Ohms; Frequency Stability: ±50ppm; Operating Mode: Fundamental; ComponentLink1Description: Datasheet; ComponentLink1URL: //media.digikey.com/pdf/Data%20Sheets/NDK%20PDFs/NX8045GB.pdf; ComponentLink2Description: DigiKey Link; ComponentLink2URL: http://digikey.com/product-detail/en/ndk-america-inc/NX8045GB-12.288000MHZ/644-1021-1-ND/1128893; Frequency: 12.288MHz; Frequency Tolerance: ±50ppm; Height - Seated (Max): 0.079" (2.00mm); LastUpdated: 9/2/2020 1:22:00 AM; Lifecycle Status: Active; Load Capacitance: 8pF; Minimum Order: 1; Mounting Type: Surface Mount; Operating Temperature: -10°C ~ 70°C; Package / Case: 2-SMD, No Lead; Packaging: TapeAndReel; PartId: 647; Part Status: Active; Price: 0.30; Series: NX8045GB; Size / Dimension: 0.315" L x 0.177" W (8.00mm x 4.50mm); Supplier 1: DigiKey; Supplier Part Number 1: 644-1021-1-ND; Type: MHz Crystal; Value: 12.288MHz
footprint NDK NX8045GB
pins: 1, 2

## NX8045GB-12M-STD-CSF-4
designator Y?, comment 12MHz
CRYSTAL 12.0000MHZ 8PF SMD; Part Number: NX8045GB-12M-STD-CSF-4; Manufacturer: NDK America, Inc.; ESR (Equivalent Series Resistance): 80 Ohms; Frequency Stability: ±30ppm; Frequency Tolerance: ±20ppm; Operating Mode: Fundamental; ComponentLink1Description: Datasheet; ComponentLink1URL: http://www.ndk.com/images/products/catalog/c_NX8045GB-STD-CSF-4_e.pdf; ComponentLink2Description: DigiKey Link; ComponentLink2URL: http://digikey.com/product-detail/en/ndk-america-inc/NX8045GB-12M-STD-CSF-4/644-1248-1-ND/4914491; Frequency: 12MHz; Height - Seated (Max): 0.079" (2.00mm); LastUpdated: 9/2/2020 1:22:00 AM; Lifecycle Status: Active; Load Capacitance: 8pF; Minimum Order: 1; Mounting Type: Surface Mount; Operating Temperature: -10°C ~ 70°C; Package / Case: 2-SMD, No Lead; Packaging: TapeAndReel; PartId: 644; Part Status: Active; Price: 0.34; Series: NX8045GB; Size / Dimension: 0.315" L x 0.177" W (8.00mm x 4.50mm); Supplier 1: DigiKey; Supplier Part Number 1: 644-1248-1-ND; Type: MHz Crystal; Value: 12MHz
footprint NDK NX8045GB
pins: 1, 2

## NX8045GB-14.318180MHZ
designator Y?, comment 14.31818MHz
CRYSTAL 14.31818MHZ 8PF SMD; Part Number: NX8045GB-14.318180MHZ; Manufacturer: NDK America, Inc.; ESR (Equivalent Series Resistance): 50 Ohms; Frequency Stability: ±50ppm; Operating Mode: Fundamental; ComponentLink1Description: Datasheet; ComponentLink1URL: //media.digikey.com/pdf/Data%20Sheets/NDK%20PDFs/NX8045GB.pdf; ComponentLink2Description: DigiKey Link; ComponentLink2URL: http://digikey.com/product-detail/en/ndk-america-inc/NX8045GB-14.318180MHZ/644-1023-1-ND/1128895; Frequency: 14.31818MHz; Frequency Tolerance: ±50ppm; Height - Seated (Max): 0.079" (2.00mm); LastUpdated: 9/2/2020 1:22:00 AM; Lifecycle Status: Active; Load Capacitance: 8pF; Minimum Order: 1; Mounting Type: Surface Mount; Operating Temperature: -10°C ~ 70°C; Package / Case: 2-SMD, No Lead; Packaging: TapeAndReel; PartId: 649; Part Status: Active; Price: 0.30; Series: NX8045GB; Size / Dimension: 0.315" L x 0.177" W (8.00mm x 4.50mm); Supplier 1: DigiKey; Supplier Part Number 1: 644-1023-1-ND; Type: MHz Crystal; Value: 14.31818MHz
footprint NDK NX8045GB
pins: 1, 2

## NX8045GB-16.934400MHZ
designator Y?, comment 16.9344MHz
CRYSTAL 16.9344MHZ 8PF SMD; Part Number: NX8045GB-16.934400MHZ; Manufacturer: NDK America, Inc.; ESR (Equivalent Series Resistance): 50 Ohms; Frequency Stability: ±50ppm; Operating Mode: Fundamental; ComponentLink1Description: Datasheet; ComponentLink1URL: //media.digikey.com/pdf/Data%20Sheets/NDK%20PDFs/NX8045GB.pdf; ComponentLink2Description: DigiKey Link; ComponentLink2URL: http://digikey.com/product-detail/en/ndk-america-inc/NX8045GB-16.934400MHZ/644-1024-1-ND/1128896; Frequency: 16.9344MHz; Frequency Tolerance: ±50ppm; Height - Seated (Max): 0.079" (2.00mm); LastUpdated: 9/2/2020 1:22:00 AM; Lifecycle Status: Active; Load Capacitance: 8pF; Minimum Order: 1; Mounting Type: Surface Mount; Operating Temperature: -10°C ~ 70°C; Package / Case: 2-SMD, No Lead; Packaging: TapeAndReel; PartId: 654; Part Status: Active; Price: 0.30; Series: NX8045GB; Size / Dimension: 0.315" L x 0.177" W (8.00mm x 4.50mm); Supplier 1: DigiKey; Supplier Part Number 1: 644-1024-1-ND; Type: MHz Crystal; Value: 16.9344MHz
footprint NDK NX8045GB
pins: 1, 2

## NX8045GB-18.432000MHZ
designator Y?, comment 18.432MHz
CRYSTAL 18.4320MHZ 8PF SMD; Part Number: NX8045GB-18.432000MHZ; Manufacturer: NDK America, Inc.; ESR (Equivalent Series Resistance): 50 Ohms; Frequency Stability: ±50ppm; Operating Mode: Fundamental; ComponentLink1Description: Datasheet; ComponentLink1URL: //media.digikey.com/pdf/Data%20Sheets/NDK%20PDFs/NX8045GB.pdf; ComponentLink2Description: DigiKey Link; ComponentLink2URL: http://digikey.com/product-detail/en/ndk-america-inc/NX8045GB-18.432000MHZ/644-1025-1-ND/1128897; Frequency: 18.432MHz; Frequency Tolerance: ±50ppm; Height - Seated (Max): 0.079" (2.00mm); LastUpdated: 9/2/2020 1:22:00 AM; Lifecycle Status: Active; Load Capacitance: 8pF; Minimum Order: 1; Mounting Type: Surface Mount; Operating Temperature: -10°C ~ 70°C; Package / Case: 2-SMD, No Lead; Packaging: TapeAndReel; PartId: 640; Part Status: Active; Price: 0.30; Series: NX8045GB; Size / Dimension: 0.315" L x 0.177" W (8.00mm x 4.50mm); Supplier 1: DigiKey; Supplier Part Number 1: 644-1025-1-ND; Type: MHz Crystal; Value: 18.432MHz
footprint NDK NX8045GB
pins: 1, 2

## NX8045GB-20.000000MHZ
designator Y?, comment 20MHz
CRYSTAL 20.0000MHZ 8PF SMD; Part Number: NX8045GB-20.000000MHZ; Manufacturer: NDK America, Inc.; ESR (Equivalent Series Resistance): 50 Ohms; Frequency Stability: ±50ppm; Operating Mode: Fundamental; ComponentLink1Description: Datasheet; ComponentLink1URL: //media.digikey.com/pdf/Data%20Sheets/NDK%20PDFs/NX8045GB.pdf; ComponentLink2Description: DigiKey Link; ComponentLink2URL: http://digikey.com/product-detail/en/ndk-america-inc/NX8045GB-20.000000MHZ/644-1026-1-ND/1128898; Frequency: 20MHz; Frequency Tolerance: ±50ppm; Height - Seated (Max): 0.079" (2.00mm); LastUpdated: 9/2/2020 1:22:00 AM; Lifecycle Status: Active; Load Capacitance: 8pF; Minimum Order: 1; Mounting Type: Surface Mount; Operating Temperature: -10°C ~ 70°C; Package / Case: 2-SMD, No Lead; Packaging: TapeAndReel; PartId: 646; Part Status: Active; Price: 0.30; Series: NX8045GB; Size / Dimension: 0.315" L x 0.177" W (8.00mm x 4.50mm); Supplier 1: DigiKey; Supplier Part Number 1: 644-1026-1-ND; Type: MHz Crystal; Value: 20MHz
footprint NDK NX8045GB
pins: 1, 2

## NX8045GB-24.000000MHZ
designator Y?, comment 24MHz
CRYSTAL 24.0000MHZ 8PF SMD; Part Number: NX8045GB-24.000000MHZ; Manufacturer: NDK America, Inc.; ESR (Equivalent Series Resistance): 50 Ohms; Frequency Stability: ±50ppm; Operating Mode: Fundamental; ComponentLink1Description: Datasheet; ComponentLink1URL: //media.digikey.com/pdf/Data%20Sheets/NDK%20PDFs/NX8045GB.pdf; ComponentLink2Description: DigiKey Link; ComponentLink2URL: http://digikey.com/product-detail/en/ndk-america-inc/NX8045GB-24.000000MHZ/644-1027-1-ND/1128899; Frequency: 24MHz; Frequency Tolerance: ±50ppm; Height - Seated (Max): 0.079" (2.00mm); LastUpdated: 9/2/2020 1:22:00 AM; Lifecycle Status: Active; Load Capacitance: 8pF; Minimum Order: 1; Mounting Type: Surface Mount; Operating Temperature: -10°C ~ 70°C; Package / Case: 2-SMD, No Lead; Packaging: TapeAndReel; PartId: 655; Part Status: Active; Price: 0.30; Series: NX8045GB; Size / Dimension: 0.315" L x 0.177" W (8.00mm x 4.50mm); Supplier 1: DigiKey; Supplier Part Number 1: 644-1027-1-ND; Type: MHz Crystal; Value: 24MHz
footprint NDK NX8045GB
pins: 1, 2

## NX8045GB-25.000000MHZ
designator Y?, comment 25MHz
CRYSTAL 25.0000MHZ 8PF SMD; Part Number: NX8045GB-25.000000MHZ; Manufacturer: NDK America, Inc.; ESR (Equivalent Series Resistance): 50 Ohms; Frequency Stability: ±50ppm; Operating Mode: Fundamental; ComponentLink1Description: Datasheet; ComponentLink1URL: //media.digikey.com/pdf/Data%20Sheets/NDK%20PDFs/NX8045GB.pdf; ComponentLink2Description: DigiKey Link; ComponentLink2URL: http://digikey.com/product-detail/en/ndk-america-inc/NX8045GB-25.000000MHZ/644-1028-1-ND/1128900; Frequency: 25MHz; Frequency Tolerance: ±50ppm; Height - Seated (Max): 0.079" (2.00mm); LastUpdated: 9/2/2020 1:22:00 AM; Lifecycle Status: Active; Load Capacitance: 8pF; Minimum Order: 1; Mounting Type: Surface Mount; Operating Temperature: -10°C ~ 70°C; Package / Case: 2-SMD, No Lead; Packaging: TapeAndReel; PartId: 652; Part Status: Active; Price: 0.30; Series: NX8045GB; Size / Dimension: 0.315" L x 0.177" W (8.00mm x 4.50mm); Supplier 1: DigiKey; Supplier Part Number 1: 644-1028-1-ND; Type: MHz Crystal; Value: 25MHz
footprint NDK NX8045GB
pins: 1, 2

## NX8045GB-30.000000MHZ
designator Y?, comment 30MHz
CRYSTAL 30.0000MHZ 8PF SMD; Part Number: NX8045GB-30.000000MHZ; Manufacturer: NDK America, Inc.; ESR (Equivalent Series Resistance): 50 Ohms; Frequency Stability: ±50ppm; Operating Mode: Fundamental; ComponentLink1Description: Datasheet; ComponentLink1URL: //media.digikey.com/pdf/Data%20Sheets/NDK%20PDFs/NX8045GB.pdf; ComponentLink2Description: DigiKey Link; ComponentLink2URL: http://digikey.com/product-detail/en/ndk-america-inc/NX8045GB-30.000000MHZ/644-1030-1-ND/1128902; Frequency: 30MHz; Frequency Tolerance: ±50ppm; Height - Seated (Max): 0.079" (2.00mm); LastUpdated: 9/2/2020 1:22:00 AM; Lifecycle Status: Active; Load Capacitance: 8pF; Minimum Order: 1; Mounting Type: Surface Mount; Operating Temperature: -10°C ~ 70°C; Package / Case: 2-SMD, No Lead; Packaging: TapeAndReel; PartId: 641; Part Status: Active; Price: 0.30; Series: NX8045GB; Size / Dimension: 0.315" L x 0.177" W (8.00mm x 4.50mm); Supplier 1: DigiKey; Supplier Part Number 1: 644-1030-1-ND; Type: MHz Crystal; Value: 30MHz
footprint NDK NX8045GB
pins: 1, 2

## NX8045GB-40.000000MHZ
designator Y?, comment 40MHz
CRYSTAL 40.0000MHZ 8PF SMD; Part Number: NX8045GB-40.000000MHZ; Manufacturer: NDK America, Inc.; ESR (Equivalent Series Resistance): 50 Ohms; Frequency Stability: ±50ppm; Operating Mode: Fundamental; ComponentLink1Description: Datasheet; ComponentLink1URL: //media.digikey.com/pdf/Data%20Sheets/NDK%20PDFs/NX8045GB.pdf; ComponentLink2Description: DigiKey Link; ComponentLink2URL: http://digikey.com/product-detail/en/ndk-america-inc/NX8045GB-40.000000MHZ/644-1032-1-ND/1128904; Frequency: 40MHz; Frequency Tolerance: ±50ppm; Height - Seated (Max): 0.079" (2.00mm); LastUpdated: 9/2/2020 1:22:00 AM; Lifecycle Status: Active; Load Capacitance: 8pF; Minimum Order: 1; Mounting Type: Surface Mount; Operating Temperature: -10°C ~ 70°C; Package / Case: 2-SMD, No Lead; Packaging: TapeAndReel; PartId: 642; Part Status: Active; Price: 0.30; Series: NX8045GB; Size / Dimension: 0.315" L x 0.177" W (8.00mm x 4.50mm); Supplier 1: DigiKey; Supplier Part Number 1: 644-1032-1-ND; Type: MHz Crystal; Value: 40MHz
footprint NDK NX8045GB
pins: 1, 2

## TSX-3225 16.0000MF09Z-AC0
designator Y?, comment 16MHz
CRYSTAL 16.00 MHZ 9PF SMD; Part Number: TSX-3225 16.0000MF09Z-AC0; Manufacturer: EPSON; ESR (Equivalent Series Resistance): 60 Ohms; Frequency Stability: ±9ppm; Frequency Tolerance: ±10ppm; Operating Mode: Fundamental; ComponentLink1Description: Datasheet; ComponentLink1URL: https://support.epson.biz/td/api/doc_check.php?dl=brief_TSX-3225&lang=en; ComponentLink2Description: DigiKey Link; ComponentLink2URL: http://digikey.com/product-detail/en/epson/TSX-3225-16.0000MF09Z-AC0/SER4069CT-ND/5413938; Frequency: 16MHz; Height - Seated (Max): 0.024" (0.60mm); LastUpdated: 9/2/2020 1:21:55 AM; Lifecycle Status: Active; Load Capacitance: 9pF; Minimum Order: 1; Mounting Type: Surface Mount; Operating Temperature: -20°C ~ 75°C; Package / Case: 4-SMD, No Lead; Packaging: TapeAndReel; PartId: 433; Part Status: Active; Price: 0.18; Series: TSX-3225; Size / Dimension: 0.126" L x 0.098" W (3.20mm x 2.50mm); Supplier 1: DigiKey; Supplier Part Number 1: SER4069CT-ND; Type: MHz Crystal; Value: 16MHz
footprint EPSON TSX-3225
pins: 1, 2 GND, 3, 4 GND

## TSX-3225 16.0000MF09Z-AC3
designator Y?, comment 16MHz
CRYSTAL 16.0000MHZ 9PF SMD; Part Number: TSX-3225 16.0000MF09Z-AC3; Manufacturer: EPSON; ESR (Equivalent Series Resistance): 60 Ohms; Frequency Stability: ±9ppm; Frequency Tolerance: ±10ppm; Operating Mode: Fundamental; ComponentLink1Description: Datasheet; ComponentLink1URL: https://support.epson.biz/td/api/doc_check.php?dl=brief_TSX-3225&lang=en; ComponentLink2Description: DigiKey Link; ComponentLink2URL: http://digikey.com/product-detail/en/epson/TSX-3225-16.0000MF09Z-AC3/SER3628CT-ND/1802879; Frequency: 16MHz; Height - Seated (Max): 0.024" (0.60mm); LastUpdated: 9/2/2020 1:21:55 AM; Lifecycle Status: Active; Load Capacitance: 9pF; Minimum Order: 1; Mounting Type: Surface Mount; Operating Temperature: -20°C ~ 75°C; Package / Case: 4-SMD, No Lead; Packaging: TapeAndReel; PartId: 444; Part Status: Active; Price: 0.22; Series: TSX-3225; Size / Dimension: 0.126" L x 0.098" W (3.20mm x 2.50mm); Supplier 1: DigiKey; Supplier Part Number 1: SER3628CT-ND; Type: MHz Crystal; Value: 16MHz
footprint EPSON TSX-3225
pins: 1, 2 GND, 3, 4 GND

## TSX-3225 16.0000MF10U-B0
designator Y?, comment 16MHz
CRYSTAL 16.00 MHZ 16.0PF SMD; Part Number: TSX-3225 16.0000MF10U-B0; Manufacturer: EPSON; ESR (Equivalent Series Resistance): 60 Ohms; Frequency Stability: ±10ppm; Load Capacitance: 16pF; Operating Mode: Fundamental; ComponentLink1Description: Datasheet; ComponentLink1URL: https://support.epson.biz/td/api/doc_check.php?dl=brief_TSX-3225&lang=en; ComponentLink2Description: DigiKey Link; ComponentLink2URL: http://digikey.com/product-detail/en/epson/TSX-3225-16.0000MF10U-B0/SER4370CT-ND/7932354; Frequency: 16MHz; Frequency Tolerance: ±10ppm; Height - Seated (Max): 0.024" (0.60mm); LastUpdated: 9/2/2020 1:21:55 AM; Lifecycle Status: Active; Minimum Order: 1; Mounting Type: Surface Mount; Operating Temperature: -10°C ~ 60°C; Package / Case: 4-SMD, No Lead; Packaging: TapeAndReel; PartId: 436; Part Status: Active; Price: 0.18; Series: TSX-3225; Size / Dimension: 0.126" L x 0.098" W (3.20mm x 2.50mm); Supplier 1: DigiKey; Supplier Part Number 1: SER4370CT-ND; Type: MHz Crystal; Value: 16MHz
footprint EPSON TSX-3225
pins: 1, 2 GND, 3, 4 GND

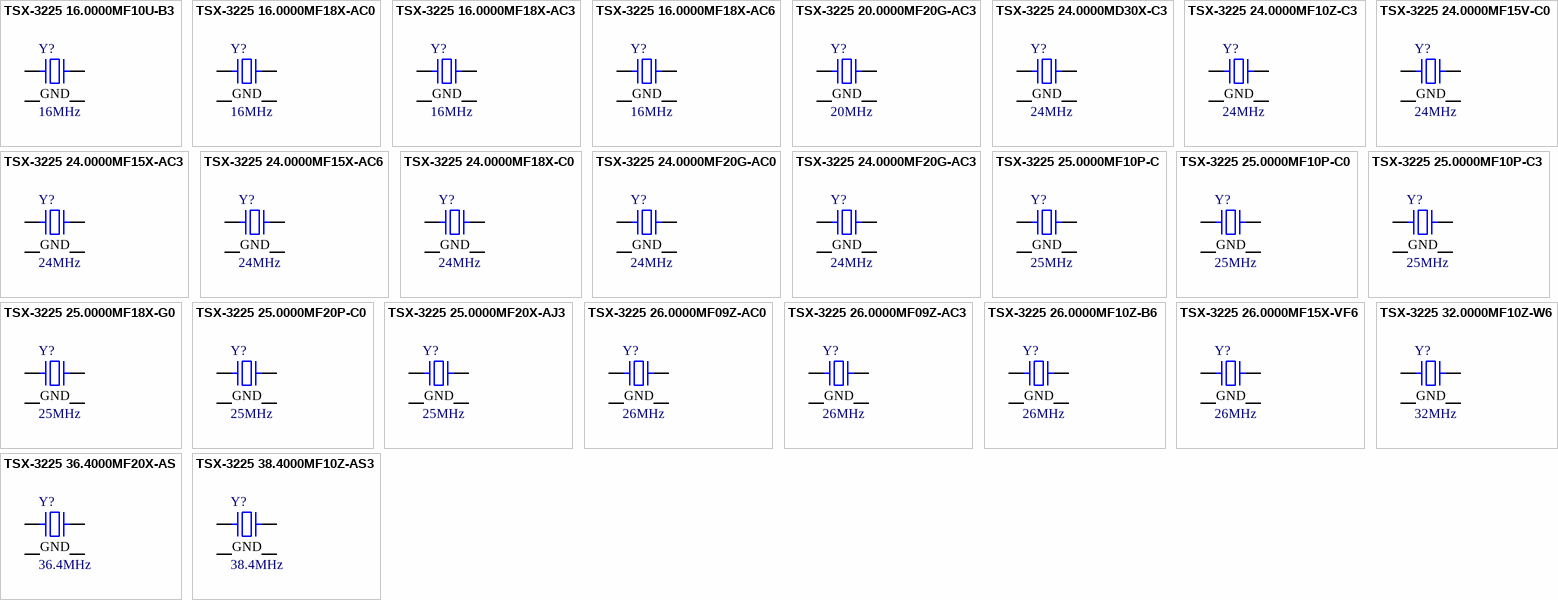
[diagram p18: symbols TSX-3225 16.0000MF10U-B3 to TSX-3225 38.4000MF10Z-AS3]

## TSX-3225 16.0000MF10U-B3
designator Y?, comment 16MHz
CRYSTAL 16.00 MHZ 16PF SMD; Part Number: TSX-3225 16.0000MF10U-B3; Manufacturer: EPSON; ESR (Equivalent Series Resistance): 60 Ohms; Frequency Stability: ±10ppm; Operating Mode: Fundamental; ComponentLink1Description: Datasheet; ComponentLink1URL: https://support.epson.biz/td/api/doc_check.php?dl=brief_TSX-3225&lang=en; ComponentLink2Description: DigiKey Link; ComponentLink2URL: http://digikey.com/product-detail/en/epson/TSX-3225-16.0000MF10U-B3/SER4371CT-ND/7932355; Frequency: 16MHz; Frequency Tolerance: ±10ppm; Height - Seated (Max): 0.024" (0.60mm); LastUpdated: 9/2/2020 1:21:54 AM; Lifecycle Status: Active; Load Capacitance: 16pF; Minimum Order: 1; Mounting Type: Surface Mount; Operating Temperature: -10°C ~ 60°C; Package / Case: 4-SMD, No Lead; Packaging: TapeAndReel; PartId: 451; Part Status: Active; Price: 0.22; Series: TSX-3225; Size / Dimension: 0.126" L x 0.098" W (3.20mm x 2.50mm); Supplier 1: DigiKey; Supplier Part Number 1: SER4371CT-ND; Type: MHz Crystal; Value: 16MHz
footprint EPSON TSX-3225
pins: 1, 2 GND, 3, 4 GND

## TSX-3225 16.0000MF18X-AC0
designator Y?, comment 16MHz
CRYSTAL 16.00 MHZ 9PF SMD; Part Number: TSX-3225 16.0000MF18X-AC0; Manufacturer: EPSON; ESR (Equivalent Series Resistance): 60 Ohms; Frequency Stability: ±18ppm; Frequency Tolerance: ±10ppm; Operating Mode: Fundamental; ComponentLink1Description: Datasheet; ComponentLink1URL: https://www5.epsondevice.com/en/information/support/pdf/june_2018_psc_masterbook.pdf; ComponentLink2Description: DigiKey Link; ComponentLink2URL: http://digikey.com/product-detail/en/epson/TSX-3225-16.0000MF18X-AC0/SER4070CT-ND/5413939; Frequency: 16MHz; Height - Seated (Max): 0.024" (0.60mm); LastUpdated: 9/2/2020 1:21:55 AM; Lifecycle Status: Active; Load Capacitance: 9pF; Minimum Order: 1; Mounting Type: Surface Mount; Operating Temperature: -40°C ~ 85°C; Package / Case: 4-SMD, No Lead; Packaging: TapeAndReel; PartId: 435; Part Status: Active; Price: 0.18; Series: TSX-3225; Size / Dimension: 0.126" L x 0.098" W (3.20mm x 2.50mm); Supplier 1: DigiKey; Supplier Part Number 1: SER4070CT-ND; Type: MHz Crystal; Value: 16MHz
footprint EPSON TSX-3225
pins: 1, 2 GND, 3, 4 GND